# Altium schematic symbol library XX.SchLib: 1 symbol
Pins are listed as number, name and electrical type; pins without a type are passive.

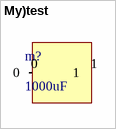
[diagram p0: symbol My)test]

## My)test
designator m?, comment 1000uF
footprint XX
pins: 0, 1